# EAGLE library part XBEE3_THING_PLUS_SPARKFUN-RF_XBEE3 (library starview_mini_v7)
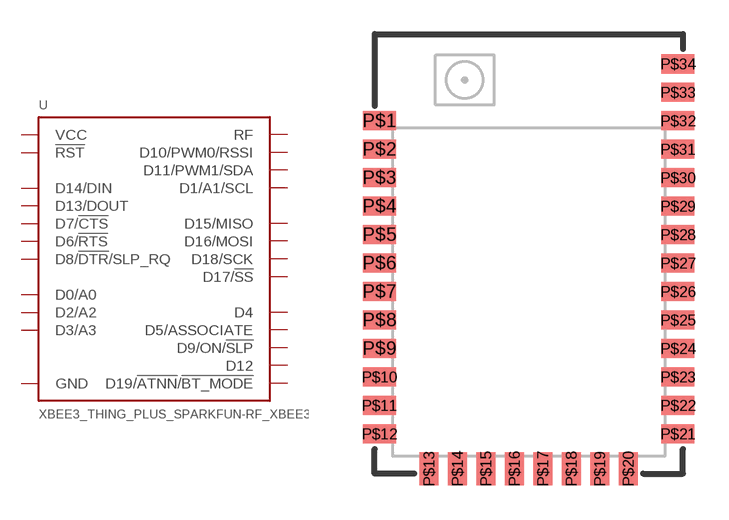
[diagram p0: symbol with the pads of XBEE3_THING_PLUS_SPARKFUN-RF_XBEE3; footprint XBEE3_THING_PLUS_SPARKFUN-RF_XBEE3]

Designator prefix U

## XBEE3_THING_PLUS_SPARKFUN-RF_XBEE3 (PROD_ID: WRL-14444/WRL-14467; VALUE: XBEE3_Micro)  [XBEE3_THING_PLUS_SPARKFUN-RF_XBEE3]
P$1  GND
P$2  VCC
P$3  D13/DOUT
P$4  D14/DIN
P$5  D12
P$6  !RST  in
P$7  D10/PWM0/RSSI
P$8  D11/PWM1/SDA
P$9  D8/!DTR!/SLP_RQ
P$10  GND
P$11  D19/!ATNN!/!BT_MODE
P$12  GND
P$13  D18/SCK
P$14  D17/!SS
P$15  D16/MOSI
P$16  D15/MISO
P$21  GND
P$23  D4
P$24  D7/!CTS
P$25  D9/ON/!SLP
P$26  D5/ASSOCIATE
P$27  D6/!RTS
P$28  D3/A3
P$29  D2/A2
P$30  D1/A1/SCL
P$31  D0/A0
P$32  GND
P$33  RF
P$34  GND

## Footprint XBEE3_THING_PLUS_SPARKFUN-RF_XBEE3 (pad centres in mm)
smd 1.448 x 0.838: P$1 -6.553,5.847; P$2 -6.553,4.597; P$3 -6.553,3.348; P$4 -6.553,2.098; P$5 -6.553,0.848; P$6 -6.553,-0.401; P$7 -6.553,-1.651; P$8 -6.553,-2.901; P$9 -6.553,-4.15; P$10 -6.553,-5.4; P$11 -6.553,-6.65; P$12 -6.553,-7.899; P$21 6.553,-7.899; P$22 6.553,-6.65; P$23 6.553,-5.4; P$24 6.553,-4.15; P$25 6.553,-2.901; P$26 6.553,-1.651; P$27 6.553,-0.401; P$28 6.553,0.848; P$29 6.553,2.098; P$30 6.553,3.348; P$31 6.553,4.597; P$32 6.553,5.847; P$33 6.553,7.097; P$34 6.553,8.346
smd 0.838 x 1.448: P$13 -4.381,-9.436; P$14 -3.132,-9.436; P$15 -1.882,-9.436; P$16 -0.632,-9.436; P$17 0.617,-9.436; P$18 1.867,-9.436; P$19 3.117,-9.436; P$20 4.366,-9.436